# Altium schematic symbol library STM32G473RET6.SchLib: 1 symbol
Pins are listed as number, name and electrical type; pins without a type are passive.

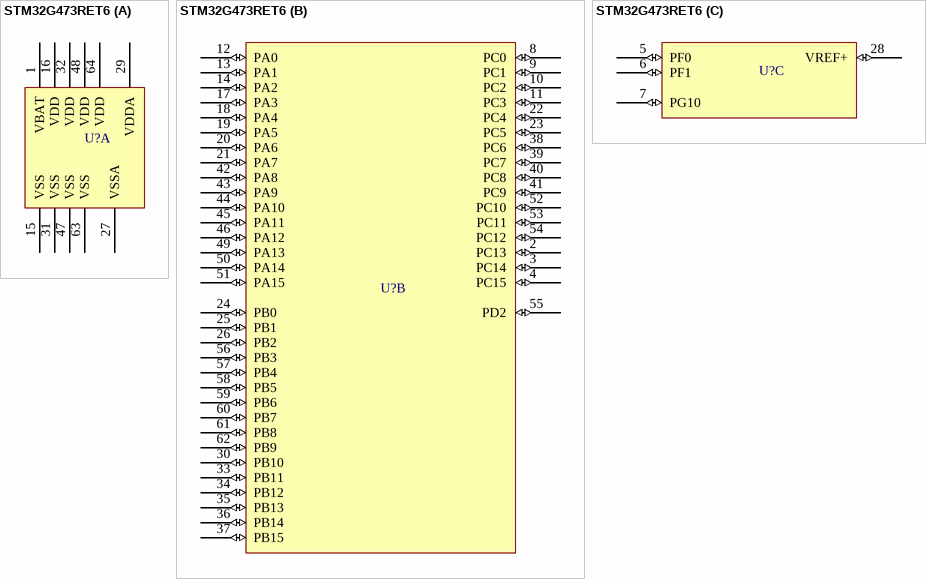
[diagram p0: symbol STM32G473RET6]

## STM32G473RET6
designator U?  (value not drawn)
Mainstream Arm Cortex-M4 MCU 170 MHz with 512 Kbytes of Flash memory, Math Accelerator, High Analog level integration
part A pins: 1 VBAT (power), 15 VSS (power), 16 VDD (power), 27 VSSA (power), 29 VDDA (power), 31 VSS (power), 32 VDD (power), 47 VSS (power), 48 VDD (power), 63 VSS (power), 64 VDD (power)
part B pins: 2 PC13 (io), 3 PC14 (io), 4 PC15 (io), 8 PC0 (io), 9 PC1 (io), 10 PC2 (io), 11 PC3 (io), 12 PA0 (io), 13 PA1 (io), 14 PA2 (io), 17 PA3 (io), 18 PA4 (io), 19 PA5 (io), 20 PA6 (io), 21 PA7 (io), 22 PC4 (io), 23 PC5 (io), 24 PB0 (io), 25 PB1 (io), 26 PB2 (io), 30 PB10 (io), 33 PB11 (io), 34 PB12 (io), 35 PB13 (io), 36 PB14 (io), 37 PB15 (io), 38 PC6 (io), 39 PC7 (io), 40 PC8 (io), 41 PC9 (io), 42 PA8 (io), 43 PA9 (io), 44 PA10 (io), 45 PA11 (io), 46 PA12 (io), 49 PA13 (io), 50 PA14 (io), 51 PA15 (io), 52 PC10 (io), 53 PC11 (io), 54 PC12 (io), 55 PD2 (io), 56 PB3 (io), 57 PB4 (io), 58 PB5 (io), 59 PB6 (io), 60 PB7 (io), 61 PB8 (io), 62 PB9 (io)
part C pins: 5 PF0 (io), 6 PF1 (io), 7 PG10 (io), 28 VREF+ (io)